# Altium schematic symbol library SCH - POWER - LINEAR VREG - TI LP3996SD-0833.SchLib: 1 symbol
Pins are listed as number, name and electrical type; pins without a type are passive.

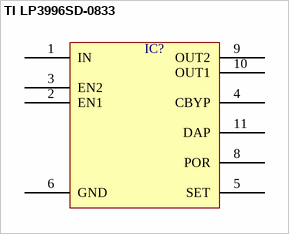
[diagram p0: symbol TI LP3996SD-0833]

## TI LP3996SD-0833
designator IC?  (value not drawn)
pins: 1 IN, 2 EN1, 3 EN2, 4 CBYP, 5 SET, 6 GND, 8 POR, 9 OUT2, 10 OUT1, 11 DAP